# EAGLE library part MPX***** (library MMC Eagle)
Generic MPX pressure sensor
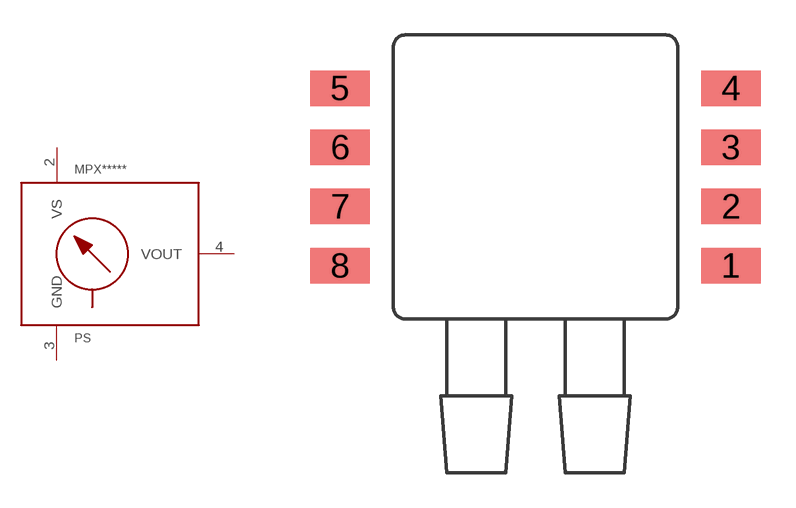
[diagram p7: symbol with the pads of 1351; footprint 1351]

Designator prefix PS

## MPX-1351  [1351]
1  NC  nc
2  VS  pwr
3  GND  pwr
4  VOUT  out
5  NC  nc
6  NC  nc

## Footprint 1351 (pad centres in mm)
Small Outline Package 1351-01 Dual Port
smd 2.54 x 1.524: 1 8.382,-3.81; 2 8.382,-1.27; 3 8.382,1.27; 4 8.382,3.81; 5 -8.382,3.81; 6 -8.382,1.27; 7 -8.382,-1.27; 8 -8.382,-3.81